# EAGLE library part MC14175BCPG (library On Semiconductor)
Quad Type D Flip-Flop
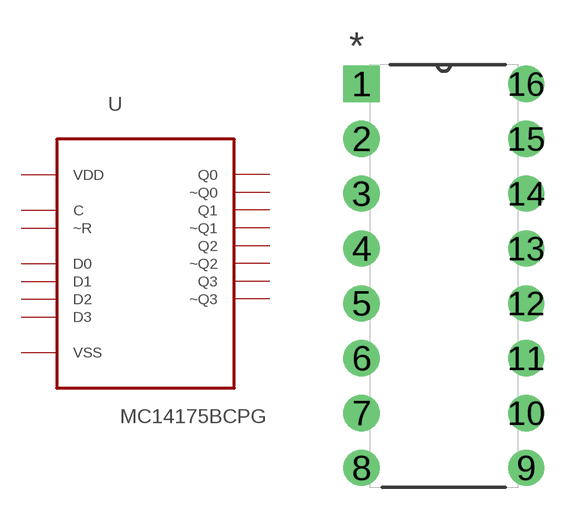
[diagram p269: symbol with the pads of DIP254P762X444-16; footprint DIP254P762X444-16]

Designator prefix U

## MC14175BCPG (MPN: MC14175BCPG; OC_FARNELL: 1607714; OC_NEWARK: 45J1098; PACKAGE: PDIP-16; SUPPLIER: On semiconductors)  [DIP254P762X444-16]
1  ~R  in
2  Q0  out
3  ~Q0  out
4  D0  in
5  D1  in
6  ~Q1  out
7  Q1  out
8  VSS  pwr
9  C  in
10  Q2  out
11  ~Q2  out
12  D2  in
13  D3  in
14  ~Q3  out
15  Q3  out
16  VDD  pwr

## Footprint DIP254P762X444-16 (pad centres in mm)
drill 1.118 square: 1 -7.62,17.78
drill 1.118: 2 -7.62,15.24; 3 -7.62,12.7; 4 -7.62,10.16; 5 -7.62,7.62; 6 -7.62,5.08; 7 -7.62,2.54; 8 -7.62,0; 9 0,0; 10 0,2.54; 11 0,5.08; 12 0,7.62; 13 0,10.16; 14 0,12.7; 15 0,15.24; 16 0,17.78